# Altium footprint library RA08T.PcbLib: 14 footprints
Each footprint in its own frame and in the unit in brackets; x right, y up, seen from the top. Pads: shape width x height; smd on the part's side, far side on the other; paste and mask are expansions set on the pad; w line width, h text height; cw(c..) or ccw(c..) is an arc to the next point about the centre after c.
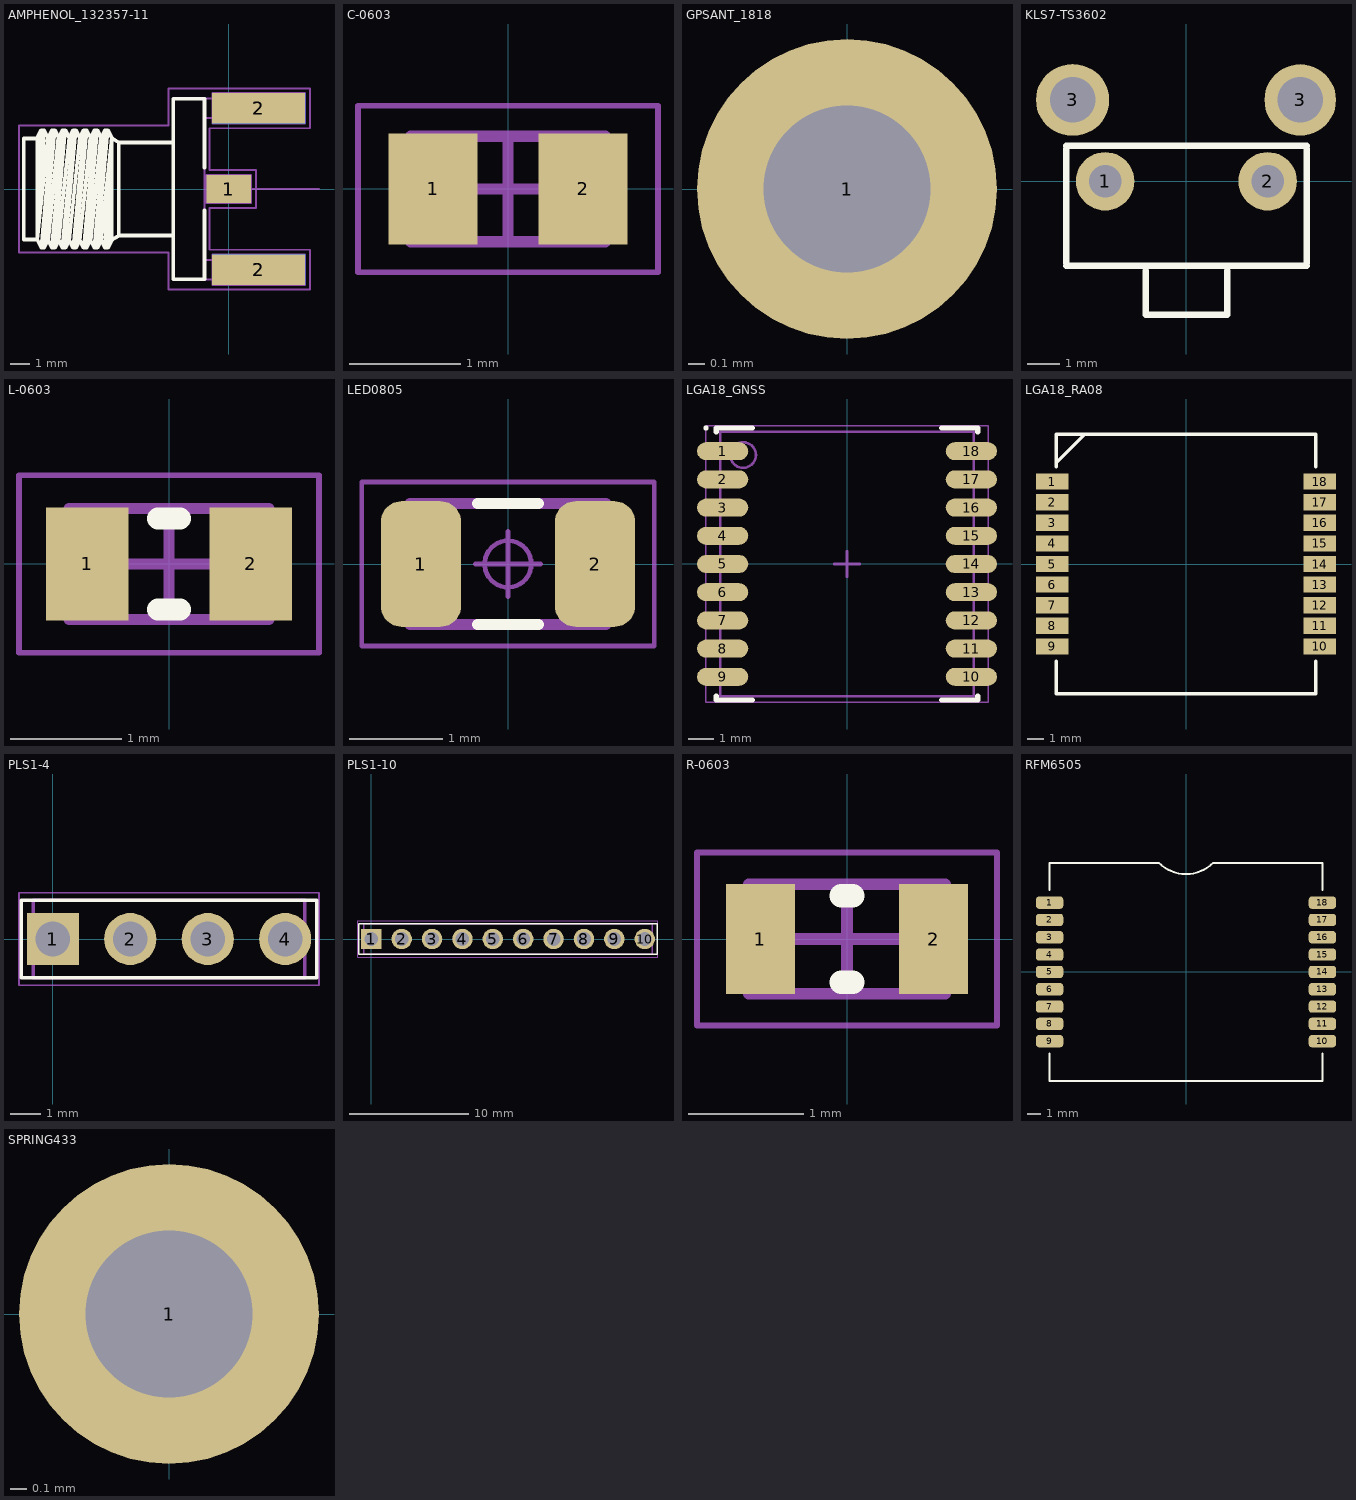
[diagram p0: the footprints below, top view; thin cyan lines are the x and y axes]

## AMPHENOL_132357-11 [mm] "SMA End Launch Jack for 1.58mm PCB, 50 Ohm, Flat Tab Contact"
height 7.92
pads (5):
  rect 2.35x1.5 smd: 1(0,0)
  rect 4.9x1.6 smd: 2(1.575,-4.25) 2(1.575,4.25)
  rect 4.9x1.6 smd far side: 2(1.575,-4.25) 2(1.575,4.25)
Top Overlay:
  lines w0.2: -10.09,2.665 -10.805,2.665 -10.805,-2.665 -10.09,-2.665 ; -6.17,-2.665 -5.795,-2.453 ; -2.925,-2.453 -5.795,-2.453 ; -2.925,2.447 -5.795,2.447 ; -1.275,-1.137 -1.275,-4.76 -2.925,-4.76 -2.925,4.76 -1.275,4.76 -1.275,1.137 ; -10.09,-2.665 -9.879,3.094 ; -10.09,-2.665 -9.741,3.094 ; -10.09,-2.665 -9.53,2.715 ; -10.09,-2.665 -9.879,-3.094 ; -10.09,-2.665 -10.09,2.715 -9.879,3.094 ; -9.879,-3.094 -9.319,3.094 ; -9.879,-3.094 -9.741,-3.094 ; -9.879,3.094 -9.741,3.094 ; -9.741,-3.094 -9.181,3.094 ; -9.741,-3.094 -9.53,-2.715 ; -9.741,3.094 -9.53,2.715 ; -9.53,-2.715 -8.97,2.715 ; -9.53,-2.715 -9.319,-3.094 ; -9.53,2.715 -9.319,3.094 ; -9.319,-3.094 -8.759,3.094 ; -9.319,-3.094 -9.181,-3.094 ; -9.319,3.094 -9.181,3.094 ; -9.181,-3.094 -8.621,3.094 ; -9.181,-3.094 -8.97,-2.715 ; -9.181,3.094 -8.97,2.715 ; -8.97,-2.715 -8.41,2.715 ; -8.97,-2.715 -8.759,-3.094 ; -8.97,2.715 -8.759,3.094 ; -8.759,-3.094 -8.199,3.094 ; -8.759,-3.094 -8.621,-3.094 ; -8.759,3.094 -8.621,3.094 ; -8.621,-3.094 -8.061,3.094 ; -8.621,-3.094 -8.41,-2.715 ; -8.621,3.094 -8.41,2.715 ; -8.41,-2.715 -7.85,2.715 ; -8.41,-2.715 -8.199,-3.094 ; -8.41,2.715 -8.199,3.094 ; -8.199,-3.094 -7.639,3.094 ; -8.199,-3.094 -8.061,-3.094 ; -8.199,3.094 -8.061,3.094 ; -8.061,-3.094 -7.501,3.094 ; -8.061,-3.094 -7.85,-2.715 ; -8.061,3.094 -7.85,2.715 ; -7.85,-2.715 -7.29,2.715 ; -7.85,-2.715 -7.639,-3.094 ; -7.85,2.715 -7.639,3.094 ; -7.639,-3.094 -7.079,3.094 ; -7.639,-3.094 -7.501,-3.094 ; -7.639,3.094 -7.501,3.094 ; -7.501,-3.094 -6.941,3.094 ; -7.501,-3.094 -7.29,-2.715 ; -7.501,3.094 -7.29,2.715 ; -7.29,-2.715 -6.73,2.715 ; -7.29,-2.715 -7.079,-3.094 ; -7.29,2.715 -7.079,3.094 ; -7.079,-3.094 -6.519,3.094 ; -7.079,-3.094 -6.941,-3.094 ; -7.079,3.094 -6.941,3.094 ; -6.941,-3.094 -6.381,3.094 ; -6.941,-3.094 -6.73,-2.715 ; -6.941,3.094 -6.73,2.715 ; -6.73,-2.715 -6.17,2.713 ; -6.73,-2.715 -6.519,-3.094 ; -6.73,2.715 -6.519,3.094 ; -6.519,-3.094 -6.17,2.713 ; -6.519,-3.094 -6.381,-3.094 ; -6.519,3.094 -6.381,3.094 ; -6.381,-3.094 -6.17,2.665 -5.795,2.447 ; -6.381,-3.094 -6.17,-2.715 -6.17,2.713 ; -6.381,3.094 -6.17,2.713 ; -5.795,-2.453 -5.795,2.447
Mechanical 8:
  lines w0.1: -0.5,0 0,0 ; 0,-0.5 0,0 ; 0,0.5 0,0 ; 0.5,0 0,0 ; 1.075,-4.25 1.575,-4.25 ; 1.075,4.25 1.575,4.25 ; 1.575,-4.75 1.575,-4.25 ; 1.575,-3.75 1.575,-4.25 ; 1.575,3.75 1.575,4.25 ; 1.575,4.75 1.575,4.25 ; 2.075,-4.25 1.575,-4.25 ; 2.075,4.25 1.575,4.25 ; -1.175,-0.75 1.175,-0.75 1.175,0.75 -1.175,0.75 -1.175,-0.75 ; -0.875,-5.05 -0.875,-3.45 4.025,-3.45 4.025,-5.05 -0.875,-5.05 ; -0.875,3.45 -0.875,5.05 4.025,5.05 4.025,3.45 -0.875,3.45
Mechanical 14:
  lines w0.1: -10.09,2.665 -10.805,2.665 -10.805,-2.665 -10.09,-2.665 ; -6.17,-2.665 -5.795,-2.453 ; -2.925,-2.453 -5.795,-2.453 ; -2.925,2.447 -5.795,2.447 ; -1.275,-4.76 -1.275,0 ; -1.275,-3.74 3.475,-3.74 3.475,-4.76 -2.925,-4.76 -2.925,4.76 3.475,4.76 3.475,3.74 -1.275,3.74 ; -1.275,-0.251 0.635,-0.251 0.635,0.251 -1.275,0.251 ; -1.275,4.76 -1.275,0 ; 4.75,0 -1.275,0 ; -10.09,-2.665 -9.879,3.094 ; -10.09,-2.665 -9.741,3.094 ; -10.09,-2.665 -9.53,2.715 ; -10.09,-2.665 -9.879,-3.094 ; -10.09,-2.665 -10.09,2.715 -9.879,3.094 ; -9.879,-3.094 -9.319,3.094 ; -9.879,-3.094 -9.741,-3.094 ; -9.879,3.094 -9.741,3.094 ; -9.741,-3.094 -9.181,3.094 ; -9.741,-3.094 -9.53,-2.715 ; -9.741,3.094 -9.53,2.715 ; -9.53,-2.715 -8.97,2.715 ; -9.53,-2.715 -9.319,-3.094 ; -9.53,2.715 -9.319,3.094 ; -9.319,-3.094 -8.759,3.094 ; -9.319,-3.094 -9.181,-3.094 ; -9.319,3.094 -9.181,3.094 ; -9.181,-3.094 -8.621,3.094 ; -9.181,-3.094 -8.97,-2.715 ; -9.181,3.094 -8.97,2.715 ; -8.97,-2.715 -8.41,2.715 ; -8.97,-2.715 -8.759,-3.094 ; -8.97,2.715 -8.759,3.094 ; -8.759,-3.094 -8.199,3.094 ; -8.759,-3.094 -8.621,-3.094 ; -8.759,3.094 -8.621,3.094 ; -8.621,-3.094 -8.061,3.094 ; -8.621,-3.094 -8.41,-2.715 ; -8.621,3.094 -8.41,2.715 ; -8.41,-2.715 -7.85,2.715 ; -8.41,-2.715 -8.199,-3.094 ; -8.41,2.715 -8.199,3.094 ; -8.199,-3.094 -7.639,3.094 ; -8.199,-3.094 -8.061,-3.094 ; -8.199,3.094 -8.061,3.094 ; -8.061,-3.094 -7.501,3.094 ; -8.061,-3.094 -7.85,-2.715 ; -8.061,3.094 -7.85,2.715 ; -7.85,-2.715 -7.29,2.715 ; -7.85,-2.715 -7.639,-3.094 ; -7.85,2.715 -7.639,3.094 ; -7.639,-3.094 -7.079,3.094 ; -7.639,-3.094 -7.501,-3.094 ; -7.639,3.094 -7.501,3.094 ; -7.501,-3.094 -6.941,3.094 ; -7.501,-3.094 -7.29,-2.715 ; -7.501,3.094 -7.29,2.715 ; -7.29,-2.715 -6.73,2.715 ; -7.29,-2.715 -7.079,-3.094 ; -7.29,2.715 -7.079,3.094 ; -7.079,-3.094 -6.519,3.094 ; -7.079,-3.094 -6.941,-3.094 ; -7.079,3.094 -6.941,3.094 ; -6.941,-3.094 -6.381,3.094 ; -6.941,-3.094 -6.73,-2.715 ; -6.941,3.094 -6.73,2.715 ; -6.73,-2.715 -6.17,2.713 ; -6.73,-2.715 -6.519,-3.094 ; -6.73,2.715 -6.519,3.094 ; -6.519,-3.094 -6.17,2.713 ; -6.519,-3.094 -6.381,-3.094 ; -6.519,3.094 -6.381,3.094 ; -6.381,-3.094 -6.17,2.665 -5.795,2.447 ; -6.381,-3.094 -6.17,-2.715 -6.17,2.713 ; -6.381,3.094 -6.17,2.713 ; -5.795,-2.453 -5.795,2.447
Mechanical 15:
  lines w0.1: -11.055,-3.344 -11.055,3.344 -3.175,3.344 -3.175,5.3 4.275,5.3 4.275,3.2 -1.025,3.2 -1.025,1 1.425,1 1.425,-1 -1.025,-1 -1.025,-3.2 4.275,-3.2 4.275,-5.3 -3.175,-5.3 -3.175,-3.344 -11.055,-3.344
3D body "AMPHENOL_132357-11.stp": height 4.08, standoff -3.84, extent -10.805,-4.76 3.475,4.76

## C-0603 [mm] "Chip Capacitor, 2-Leads, Body 1,60x0,80mm, IPC Medium Density"
height 0.85
pads (2):
  rect 0.8x1 smd: 1(-0.675,0) 2(0.675,0)
Mechanical 13:
  lines w0.1: -0.875,-0.475 0.875,-0.475 0.875,0.475 -0.875,0.475 -0.875,-0.475
Mechanical 15:
  lines w0.05: -1.35,-0.75 1.35,-0.75 1.35,0.75 -1.35,0.75 -1.35,-0.75
  lines w0.1: -0.475,0 0.475,0 ; 0,-0.475 0,0.475
3D body "C_0603_1608Metric.step": height 0.8, standoff 0, extent -0.8,-0.4 0.8,0.4

## GPSANT_1818 [mm]
pads (1):
  round 1.8 hole 1: 1(0,0)
3D body "YDRA-A18-1575.step": height 5, standoff -3, extent -9,-10.1 9,7.9

## KLS7-TS3602 [mm] "miniature switch"
height 2
pads (4):
  round 1.8 hole 1: 1(-2.5,0) 2(2.5,0)
  oval 2.25x2.2 hole 1.4: 3(-3.5,2.5)
  round 2.2 hole 1.4: 3(3.5,2.5)
Top Overlay:
  lines w0.2: -3.7,-2.6 3.7,-2.6 ; -3.7,-2.5 -3.7,1 ; -3.7,1.1 3.7,1.1 ; -1.25,-2.75 -1.25,-4.1 1.25,-4.1 1.25,-2.75 ; 3.7,-2.5 3.7,1
3D body "KLS7-TS3602.STEP": height 4.4, standoff -1.4, extent -3.7,-3.975 3.6,3.75

## L-0603 [mm] "Chip Inductor, 2-Leads, Body 1,60x0,80mm, IPC Medium Density"
height 1
pads (2):
  rect 0.74x1.02 smd: 1(-0.735,0) 2(0.735,0)
Top Overlay:
  lines w0.2: -0.1,-0.41 0.1,-0.41 ; -0.1,0.41 0.1,0.41
Mechanical 13:
  lines w0.1: -0.9,-0.5 0.9,-0.5 0.9,0.5 -0.9,0.5 -0.9,-0.5
Mechanical 15:
  lines w0.05: -1.35,-0.8 1.35,-0.8 1.35,0.8 -1.35,0.8 -1.35,-0.8
  lines w0.1: -0.5,0 0.5,0 ; 0,-0.5 0,0.5
3D body "INDC1608X10N.step": height 1, standoff 0, extent -0.9,-0.5 0.9,0.5

## LED0805 [mm] "LED, Chip; 2.00 mm L X 1.25 mm W X 0.80 mm H body"
height 0.8
pads (2):
  rrect51% 0.86x1.35 smd: 1(-0.935,0) 2(0.935,0)
Top Overlay:
  lines w0.12: -0.325,-0.65 0.325,-0.65 ; -0.325,0.65 0.325,0.65
Mechanical 11:
  lines w0.12: -1.05,-0.65 -1.05,0.65 1.05,0.65 1.05,-0.65 -1.05,-0.65
Mechanical 12:
  lines w0.025: -1,-0.625 -0.6,-0.625 -0.6,0.625 -1,0.625 ; -1,-0.625 -1,0.625 ; -1,-0.625 -1,0.625 ; -1,-0.625 1,-0.625 ; -1,0.625 1,0.625 ; 1,-0.625 1,0.625 ; 1,-0.625 0.6,-0.625 0.6,0.625 1,0.625 ; 1,-0.625 1,0.625
Mechanical 15:
  circle w0.05: c0,0 r0.25
  lines w0.05: -0.35,0 0.35,0 ; 0,-0.35 0,0.35 ; -1.57,-0.88 -1.57,0.88 1.57,0.88 1.57,-0.88 -1.57,-0.88
3D body: height 0.25, standoff 0, extent -1,-0.625 1,0.625

## LGA18_GNSS [mm] "8-Leads, Body 10,10x9,70mm, Pitch 1,10mm"
height 2.6
pads (18):
  oval 2x0.7 smd mask+0.1: 1(-4.85,4.4) 2(-4.85,3.3) 3(-4.85,2.2) 4(-4.85,1.1) 5(-4.85,0) 6(-4.85,-1.1) 7(-4.85,-2.2) 8(-4.85,-3.3) 9(-4.85,-4.4) 10(4.85,-4.4) 11(4.85,-3.3) 12(4.85,-2.2) 13(4.85,-1.1) 14(4.85,0) 15(4.85,1.1) 16(4.85,2.2) 17(4.85,3.3) 18(4.85,4.4)
Top Overlay:
  circle w0.1: c-5.5,5.3 r0.05
  lines w0.2: -5.1,-5.15 -5.1,-5.3 -3.695,-5.3 ; -5.1,5.15 -5.1,5.3 -3.695,5.3 ; 3.695,-5.3 5.1,-5.3 5.1,-5.15 ; 3.695,5.3 5.1,5.3 5.1,5.15
Mechanical 13:
  circle w0.1: c-4.05,4.25 r0.5
  lines w0.1: -4.95,-5.15 -4.95,5.15 4.95,5.15 4.95,-5.15 -4.95,-5.15
Mechanical 15:
  lines w0.05: -5.505,-5.4 -5.505,5.4 5.505,5.4 5.505,-5.4 -5.505,-5.4
  lines w0.1: -0.5,0 0.5,0 ; 0,-0.5 0,0.5
3D body "SIM28M.step": height 2.56, standoff -0.01, extent -4.86,-5.05 4.86,5.05

## LGA18_RA08 [mm]
pads (18):
  rect 2x1 smd: 1(-8.25,5.08) 2(-8.25,3.81) 3(-8.25,2.54) 4(-8.25,1.27) 5(-8.25,0) 6(-8.25,-1.27) 7(-8.25,-2.54) 8(-8.25,-3.81) 9(-8.25,-5.08) 10(8.25,-5.08) 11(8.25,-3.81) 12(8.25,-2.54) 13(8.25,-1.27) 14(8.25,0) 15(8.25,1.27) 16(8.25,2.54) 17(8.25,3.81) 18(8.25,5.08)
Top Overlay:
  lines w0.2: -8,-6 -8,-8 8,-8 8,-6 ; -8,6 -8,8 8,8 8,6 ; -8,6.25 -6.25,8
3D body: height 1.5, standoff 0, extent -7.5,-7.5 7.5,7.528

## LOGO1 [mm] "Cat Vader"

## PLS1-4 [mm] "Header, Vertical, 2.54 mm pitch; 0.70 mm lead width, 4 pins, 1 row, 4 pins per row, 8.89 mm L X 2.54 mm W X 7.54 mm H body"
height 7.54
pads (4):
  rect 1.71x1.71 hole 1.14 paste-1.71: 1(0,0)
  round 1.71 hole 1.14 paste-1.71: 2(2.54,0) 3(5.08,0) 4(7.62,0)
Top Overlay:
  lines w0.12: -1.04,-1.27 8.66,-1.27 8.66,1.27 -1.04,1.27 -1.04,-1.27
Mechanical 11:
  lines w0.12: -0.64,-1.27 8.26,-1.27 8.26,1.27 -0.64,1.27 -0.64,-1.27
Mechanical 12:
  lines w0.025: -0.635,-1.27 8.255,-1.27 8.255,1.27 -0.635,1.27 -0.635,-1.27 ; -0.35,-0.35 0.35,-0.35 0.35,0.35 -0.35,0.35 -0.35,-0.35 ; 2.19,-0.35 2.89,-0.35 2.89,0.35 2.19,0.35 2.19,-0.35 ; 4.73,-0.35 5.43,-0.35 5.43,0.35 4.73,0.35 4.73,-0.35 ; 7.27,-0.35 7.97,-0.35 7.97,0.35 7.27,0.35 7.27,-0.35
Mechanical 15:
  circle w0.05: c0,0 r0.25
  lines w0.05: -0.35,0 0.35,0 ; 0,-0.35 0,0.35 ; -1.11,-1.52 8.73,-1.52 8.73,1.52 -1.11,1.52 -1.11,-1.52
3D body "HDRV4W70P254_4X1_889X254H754.STEP": height 7.54, standoff -2.3, extent -0.635,-1.27 8.255,1.27

## PLS1-10 [mm] "Header, Vertical, 2.54 mm pitch; 0.70 mm lead width, 10 pins, 1 row, 10 pins per row, 24.13 mm L X 2.54 mm W X 7.54 mm H body"
height 7.54
pads (10):
  rect 1.71x1.71 hole 1.14 paste-1.71: 1(0,0)
  round 1.71 hole 1.14 paste-1.71: 2(2.54,0) 3(5.08,0) 4(7.62,0) 5(10.16,0) 6(12.7,0) 7(15.24,0) 8(17.78,0) 9(20.32,0) 10(22.86,0)
Top Overlay:
  lines w0.12: -1.04,-1.27 -1.04,1.27 23.9,1.27 23.9,-1.27 -1.04,-1.27
Mechanical 11:
  lines w0.12: -0.64,-1.27 -0.64,1.27 23.5,1.27 23.5,-1.27 -0.64,-1.27
Mechanical 12:
  lines w0.025: -0.635,-1.27 -0.635,1.27 23.495,1.27 23.495,-1.27 -0.635,-1.27 ; -0.35,-0.35 -0.35,0.35 0.35,0.35 0.35,-0.35 -0.35,-0.35 ; 2.19,-0.35 2.19,0.35 2.89,0.35 2.89,-0.35 2.19,-0.35 ; 4.73,-0.35 4.73,0.35 5.43,0.35 5.43,-0.35 4.73,-0.35 ; 7.27,-0.35 7.27,0.35 7.97,0.35 7.97,-0.35 7.27,-0.35 ; 9.81,-0.35 9.81,0.35 10.51,0.35 10.51,-0.35 9.81,-0.35 ; 12.35,-0.35 12.35,0.35 13.05,0.35 13.05,-0.35 12.35,-0.35 ; 14.89,-0.35 14.89,0.35 15.59,0.35 15.59,-0.35 14.89,-0.35 ; 17.43,-0.35 17.43,0.35 18.13,0.35 18.13,-0.35 17.43,-0.35 ; 19.97,-0.35 19.97,0.35 20.67,0.35 20.67,-0.35 19.97,-0.35 ; 22.51,-0.35 22.51,0.35 23.21,0.35 23.21,-0.35 22.51,-0.35
Mechanical 15:
  circle w0.05: c0,0 r0.25
  lines w0.05: -0.35,0 0.35,0 ; 0,-0.35 0,0.35 ; -1.11,-1.52 -1.11,1.52 23.97,1.52 23.97,-1.52 -1.11,-1.52
3D body "HDRV10W70P254_10X1_2413X254H754.STEP": height 7.54, standoff -2.3, extent -0.635,-1.27 23.495,1.27

## R-0603 [mm] "Chip Resistor, 2-Leads, Body 1,60x0,82mm, IPC Medium Density"
height 0.6
pads (2):
  rect 0.6x0.95 smd: 1(-0.75,0) 2(0.75,0)
Top Overlay:
  lines w0.2: -0.05,-0.375 0.05,-0.375 ; -0.05,0.375 0.05,0.375
Mechanical 13:
  lines w0.1: -0.85,-0.475 -0.85,0.475 0.85,0.475 0.85,-0.475 -0.85,-0.475
Mechanical 15:
  lines w0.05: -1.3,-0.75 -1.3,0.75 1.3,0.75 1.3,-0.75 -1.3,-0.75
  lines w0.1: -0.475,0 0.475,0 ; 0,-0.475 0,0.475
3D body "R_0603_1608Metric.step": height 0.45, standoff 0, extent -0.8,-0.4 0.8,0.4

## RFM6505 [mm]
height 2
pads (18):
  rrect50% 2x0.9 smd: 1(-10,5.08) 2(-10,3.81) 3(-10,2.54) 4(-10,1.27) 5(-10,0) 6(-10,-1.27) 7(-10,-2.54) 8(-10,-3.81) 9(-10,-5.08) 10(10,-5.08) 11(10,-3.81) 12(10,-2.54) 13(10,-1.27) 14(10,0) 15(10,1.27) 16(10,2.54) 17(10,3.81) 18(10,5.08)
Top Overlay:
  lines w0.15: -10,-6 -10,-8 10,-8 10,-6 ; -10,6 -10,8 -2,8 ccw(c0,10) 2,8 10,8 10,6
3D body: height 2.8, standoff 0, extent -9.96,-8.05 10.16,8.05

## SPRING433 [mm]
pads (1):
  round 1.8 hole 1: 1(0,0)
3D body "User Library-433MHz Antenna Bended.step": height 3.76, standoff -3.94, extent -3.864,-0.449 3.756,51.75